# EAGLE library part STM8S103F3-DEVKIT (library STM8DevKit)
Development kit of the STM8S103F3 with a Test Led, power Led and reset button
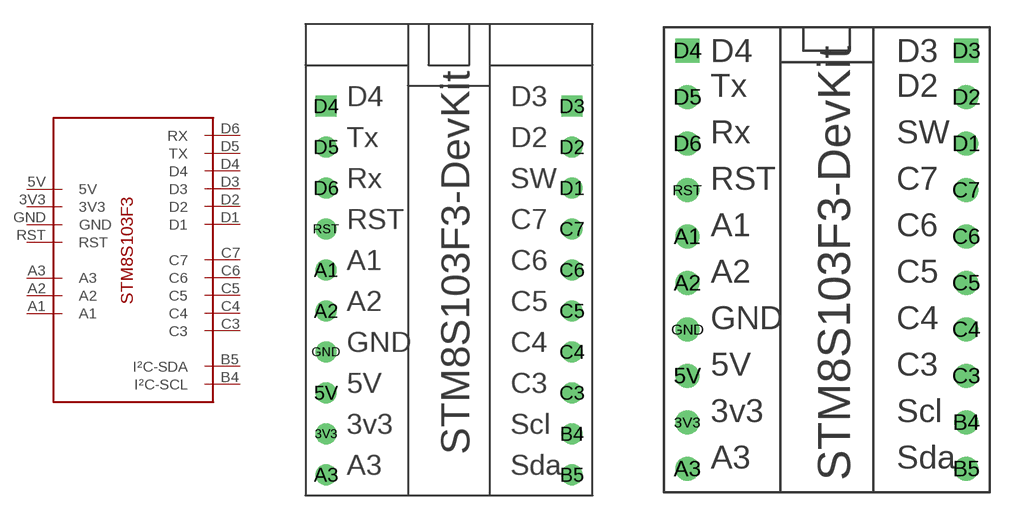
[diagram p0: symbol with the pads of STM8S103F3-DEVKIT; footprints STM8S103F3-DEVKIT, STM8S103F3-DEVKIT-MINI]

Designator prefix -

## STM8S103F3-DEVKIT  [STM8S103F3-DEVKIT]
3V3  3V3
5V  5V
A1  A1
A2  A2
A3  A3
B4  I²C-SCL
B5  I²C-SDA
C3  C3
C4  C4
C5  C5
C6  C6
C7  C7
D1  D1
D2  D2
D3  D3
D4  D4
D5  TX
D6  RX
GND  GND
RST  RST

## STM8S103F3-DEVKITMINI  [STM8S103F3-DEVKIT-MINI]
Pads as for STM8S103F3-DEVKIT

## Footprint STM8S103F3-DEVKIT (pad centres in mm)
drill 0.8: 3V3 -7.62,-10.16; 5V -7.62,-7.62; A1 -7.62,0; A2 -7.62,-2.54; A3 -7.62,-12.7; B4 7.62,-10.16; B5 7.62,-12.7; C3 7.62,-7.62; C4 7.62,-5.08; C5 7.62,-2.54; C6 7.62,0; C7 7.62,2.54; D1 7.62,5.08; D2 7.62,7.62; D5 -7.62,7.62; D6 -7.62,5.08; GND -7.62,-5.08; RST -7.62,2.54
drill 0.8 square: D3 7.62,10.16; D4 -7.62,10.16

## Footprint STM8S103F3-DEVKIT-MINI (pad centres in mm)
drill 0.8: 3V3 -7.62,-7.62; 5V -7.62,-5.08; A1 -7.62,2.54; A2 -7.62,0; A3 -7.62,-10.16; B4 7.62,-7.62; B5 7.62,-10.16; C3 7.62,-5.08; C4 7.62,-2.54; C5 7.62,0; C6 7.62,2.54; C7 7.62,5.08; D1 7.62,7.62; D2 7.62,10.16; D5 -7.62,10.16; D6 -7.62,7.62; GND -7.62,-2.54; RST -7.62,5.08
drill 0.8 square: D3 7.62,12.7; D4 -7.62,12.7